# Altium schematic symbol library Schlib1.SchLib: 29 symbols
Pins are listed as number, name and electrical type; pins without a type are passive.

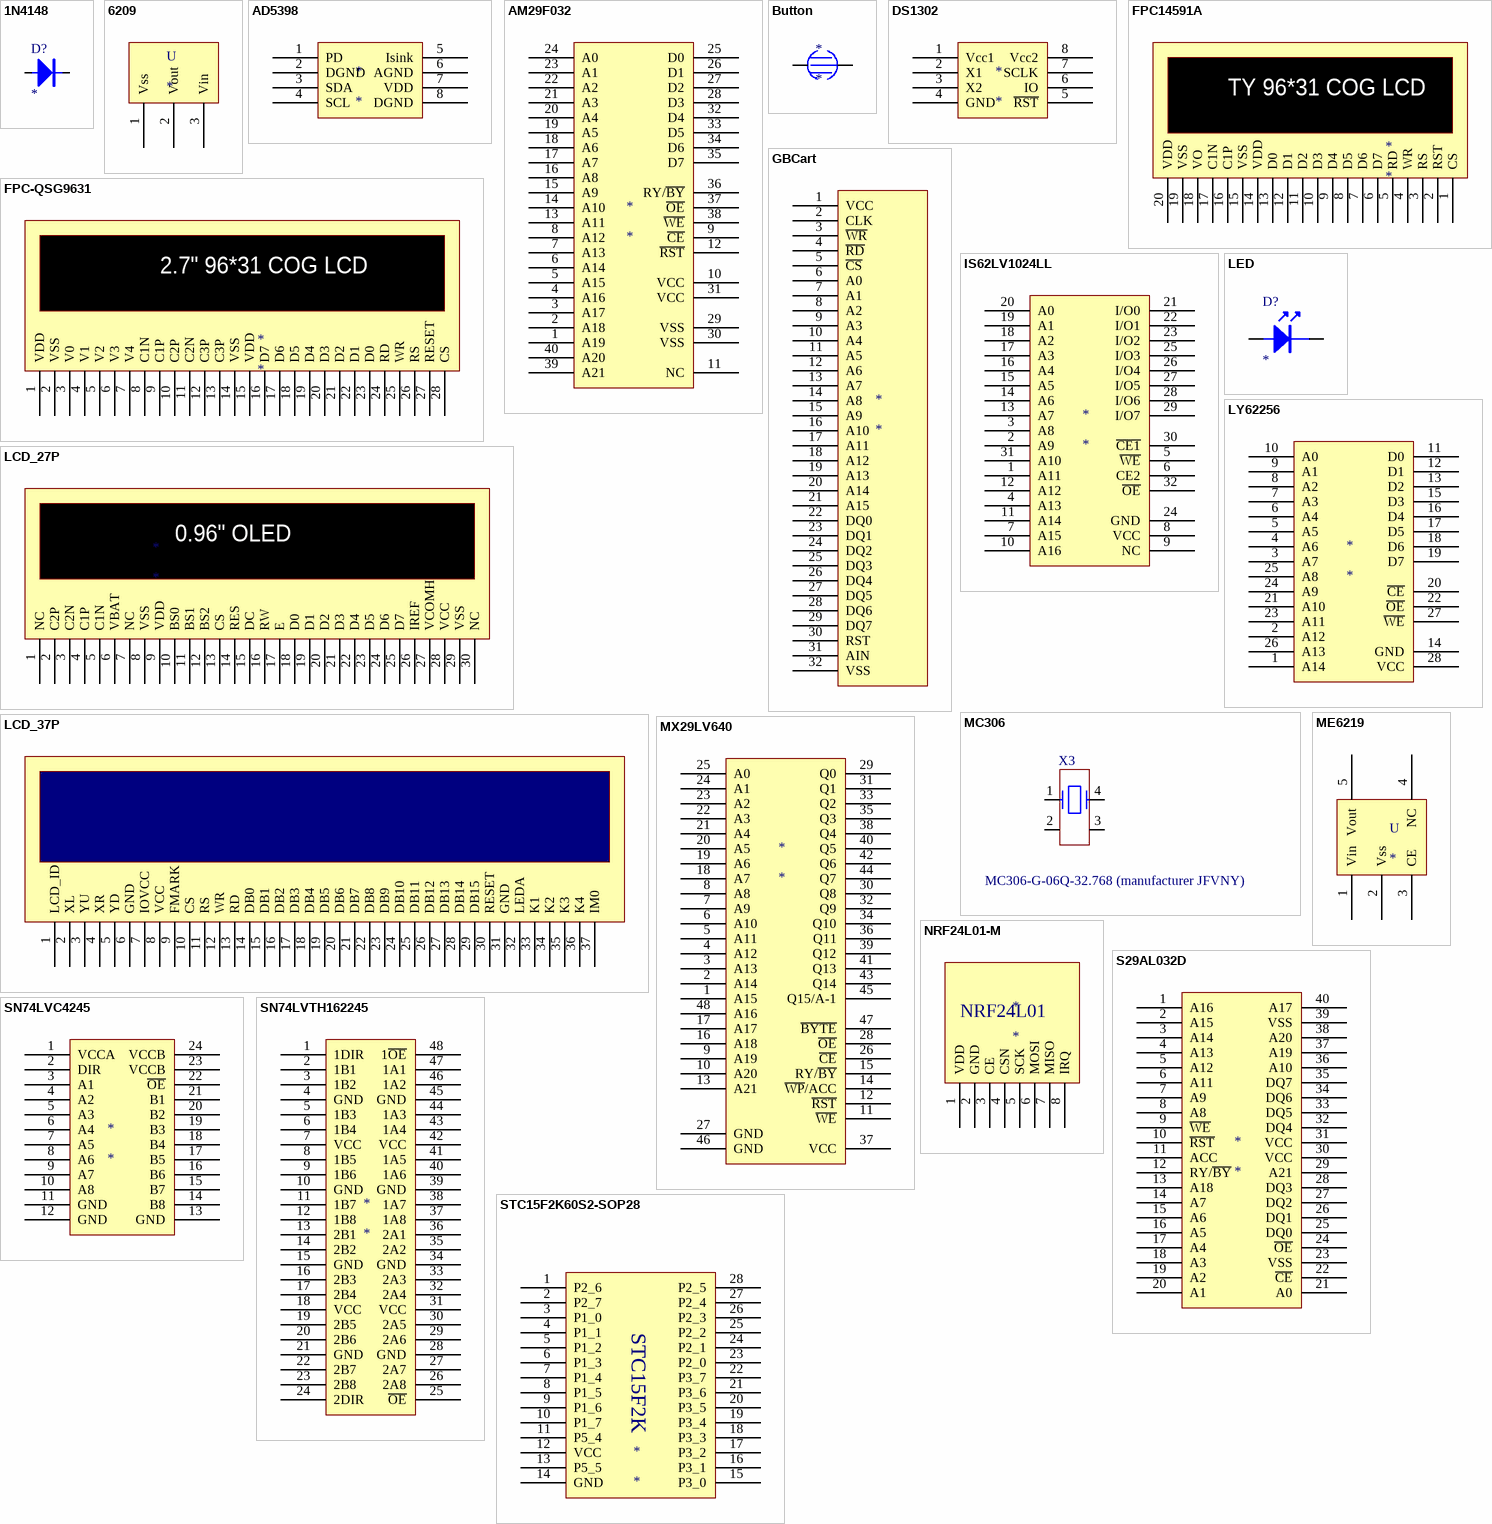
[diagram p0: symbols 1N4148 to STC15F2K60S2-SOP28]

## 1N4148
designator D?
footprint 0805D
pins: A 1, K 2

## 6209
designator U
footprint SOT-23
pins: 1 Vss, 2 Vout, 3 Vin

## AD5398
designator *
footprint SO-8
pins: 1 PD, 2 DGND, 3 SDA, 4 SCL, 5 Isink, 6 AGND, 7 VDD, 8 DGND

## AM29F032
designator *
footprint TSOP40
pins: 1 A19, 2 A18, 3 A17, 4 A16, 5 A15, 6 A14, 7 A13, 8 A12, 9 ~{CE}, 10 VCC, 11 NC, 12 ~{RST}, 13 A11, 14 A10, 15 A9, 16 A8, 17 A7, 18 A6, 19 A5, 20 A4, 21 A3, 22 A2, 23 A1, 24 A0, 25 D0, 26 D1, 27 D2, 28 D3, 29 VSS, 30 VSS, 31 VCC, 32 D4, 33 D5, 34 D6, 35 D7, 36 RY/~{BY}, 37 ~{OE}, 38 ~{WE}, 39 A21, 40 A20

## Button
designator *
footprint Button
pins: 1, 2

## DS1302
designator *
pins: 1 Vcc1, 2 X1, 3 X2, 4 GND, 5 ~{RST}, 6 IO, 7 SCLK, 8 Vcc2

## FPC14591A
designator *
pins: 1 CS, 2 RST, 3 RS, 4 WR, 5 RD, 6 D7, 7 D6, 8 D5, 9 D4, 10 D3, 11 D2, 12 D1, 13 D0, 14 VDD, 15 VSS, 16 C1P, 17 C1N, 18 VO, 19 VSS, 20 VDD
text: TY 96*31 COG LCD

## FPC-QSG9631
designator *
pins: 1 VDD, 2 VSS, 3 V0, 4 V1, 5 V2, 6 V3, 7 V4, 8 C1N, 9 C1P, 10 C2P, 11 C2N, 12 C3P, 13 C3P, 14 VSS, 15 VDD, 16 D7, 17 D6, 18 D5, 19 D4, 20 D3, 21 D2, 22 D1, 23 D0, 24 RD, 25 WR, 26 RS, 27 RESET, 28 CS
text: 2.7" 96*31 COG LCD

## GBCart
designator *
footprint GB_CART
pins: 1 VCC, 2 CLK, 3 ~{WR}, 4 ~{RD}, 5 ~{CS}, 6 A0, 7 A1, 8 A2, 9 A3, 10 A4, 11 A5, 12 A6, 13 A7, 14 A8, 15 A9, 16 A10, 17 A11, 18 A12, 19 A13, 20 A14, 21 A15, 22 DQ0, 23 DQ1, 24 DQ2, 25 DQ3, 26 DQ4, 27 DQ5, 28 DQ6, 29 DQ7, 30 RST, 31 AIN, 32 VSS

## IS62LV1024LL
designator *
footprint TSOP32
pins: 1 A11, 2 A9, 3 A8, 4 A13, 5 ~{WE}, 6 CE2, 7 A15, 8 VCC, 9 NC, 10 A16, 11 A14, 12 A12, 13 A7, 14 A6, 15 A5, 16 A4, 17 A3, 18 A2, 19 A1, 20 A0, 21 I/O0, 22 I/O1, 23 I/O2, 24 GND, 25 I/O3, 26 I/O4, 27 I/O5, 28 I/O6, 29 I/O7, 30 ~{CE1}, 31 A10, 32 ~{OE}

## LCD_27P
designator *
footprint OLED_30P
pins: 1 NC, 2 C2P, 3 C2N, 4 C1P, 5 C1N, 6 VBAT, 7 NC, 8 VSS, 9 VDD, 10 BS0, 11 BS1, 12 BS2, 13 CS, 14 RES, 15 DC, 16 RW, 17 E, 18 D0, 19 D1, 20 D2, 21 D3, 22 D4, 23 D5, 24 D6, 25 D7, 26 IREF, 27 VCOMH, 28 VCC, 29 VSS, 30 NC
text: 0.96" OLED

## LCD_37P
designator *
footprint LCD_37P
pins: 1 LCD_ID, 2 XL, 3 YU, 4 XR, 5 YD, 6 GND, 7 IOVCC, 8 VCC, 9 FMARK, 10 CS, 11 RS, 12 WR, 13 RD, 14 DB0, 15 DB1, 16 DB2, 17 DB3, 18 DB4, 19 DB5, 20 DB6, 21 DB7, 22 DB8, 23 DB9, 24 DB10, 25 DB11, 26 DB12, 27 DB13, 28 DB14, 29 DB15, 30 RESET, 31 GND, 32 LEDA, 33 K1, 34 K2, 35 K3, 36 K4, 37 IM0

## LED
designator D?
LED
footprint 0805D
pins: A 1, K 2

## LY62256
designator *
footprint SOP28
pins: 1 A14, 2 A12, 3 A7, 4 A6, 5 A5, 6 A4, 7 A3, 8 A2, 9 A1, 10 A0, 11 D0, 12 D1, 13 D2, 14 GND, 15 D3, 16 D4, 17 D5, 18 D6, 19 D7, 20 ~{CE}, 21 A10, 22 ~{OE}, 23 A11, 24 A9, 25 A8, 26 A13, 27 ~{WE}, 28 VCC

## MC306
designator X3, comment MC306-G-06Q-32.768 (manufacturer JFVNY)
footprint SM8 (Footprint not found)
pins: 1, 2, 3, 4

## ME6219
designator U
footprint SOT-23-5
pins: 1 Vin, 2 Vss, 3 CE, 4 NC, 5 Vout

## MX29LV640
designator *
footprint TSOP48L
pins: 1 A15, 2 A14, 3 A13, 4 A12, 5 A11, 6 A10, 7 A9, 8 A8, 9 A19, 10 A20, 11 ~{WE}, 12 ~{RST}, 13 A21, 14 ~{WP}/ACC, 15 RY/~{BY}, 16 A18, 17 A17, 18 A7, 19 A6, 20 A5, 21 A4, 22 A3, 23 A2, 24 A1, 25 A0, 26 ~{CE}, 27 GND, 28 ~{OE}, 29 Q0, 30 Q8, 31 Q1, 32 Q9, 33 Q2, 34 Q10, 35 Q3, 36 Q11, 37 VCC, 38 Q4, 39 Q12, 40 Q5, 41 Q13, 42 Q6, 43 Q14, 44 Q7, 45 Q15/A-1, 46 GND, 47 ~{BYTE}, 48 A16

## NRF24L01-M
designator *
footprint NRF24L01
pins: 1 VDD, 2 GND, 3 CE, 4 CSN, 5 SCK, 6 MOSI, 7 MISO, 8 IRQ
text: NRF24L01

## S29AL032D
designator *
footprint TSOP40
pins: 1 A16, 2 A15, 3 A14, 4 A13, 5 A12, 6 A11, 7 A9, 8 A8, 9 ~{WE}, 10 ~{RST}, 11 ACC, 12 RY/~{BY}, 13 A18, 14 A7, 15 A6, 16 A5, 17 A4, 18 A3, 19 A2, 20 A1, 21 A0, 22 ~{CE}, 23 VSS, 24 ~{OE}, 25 DQ0, 26 DQ1, 27 DQ2, 28 DQ3, 29 A21, 30 VCC, 31 VCC, 32 DQ4, 33 DQ5, 34 DQ6, 35 DQ7, 36 A10, 37 A19, 38 A20, 39 VSS, 40 A17

## SN74LVC4245
designator *
footprint TSSOP24
pins: 1 VCCA, 2 DIR, 3 A1, 4 A2, 5 A3, 6 A4, 7 A5, 8 A6, 9 A7, 10 A8, 11 GND, 12 GND, 13 GND, 14 B8, 15 B7, 16 B6, 17 B5, 18 B4, 19 B3, 20 B2, 21 B1, 22 ~{OE}, 23 VCCB, 24 VCCB

## SN74LVTH162245
designator *
footprint TSOP48
pins: 1 1DIR, 2 1B1, 3 1B2, 4 GND, 5 1B3, 6 1B4, 7 VCC, 8 1B5, 9 1B6, 10 GND, 11 1B7, 12 1B8, 13 2B1, 14 2B2, 15 GND, 16 2B3, 17 2B4, 18 VCC, 19 2B5, 20 2B6, 21 GND, 22 2B7, 23 2B8, 24 2DIR, 25 ~{OE}, 26 2A8, 27 2A7, 28 GND, 29 2A6, 30 2A5, 31 VCC, 32 2A4, 33 2A3, 34 GND, 35 2A2, 36 2A1, 37 1A8, 38 1A7, 39 GND, 40 1A6, 41 1A5, 42 VCC, 43 1A4, 44 1A3, 45 GND, 46 1A2, 47 1A1, 48 1~{OE}

## STC15F2K60S2-SOP28
designator *
pins: 1 P2_6, 2 P2_7, 3 P1_0, 4 P1_1, 5 P1_2, 6 P1_3, 7 P1_4, 8 P1_5, 9 P1_6, 10 P1_7, 11 P5_4, 12 VCC, 13 P5_5, 14 GND, 15 P3_0, 16 P3_1, 17 P3_2, 18 P3_3, 19 P3_4, 20 P3_5, 21 P3_6, 22 P3_7, 23 P2_0, 24 P2_1, 25 P2_2, 26 P2_3, 27 P2_4, 28 P2_5
text: STC15F2K

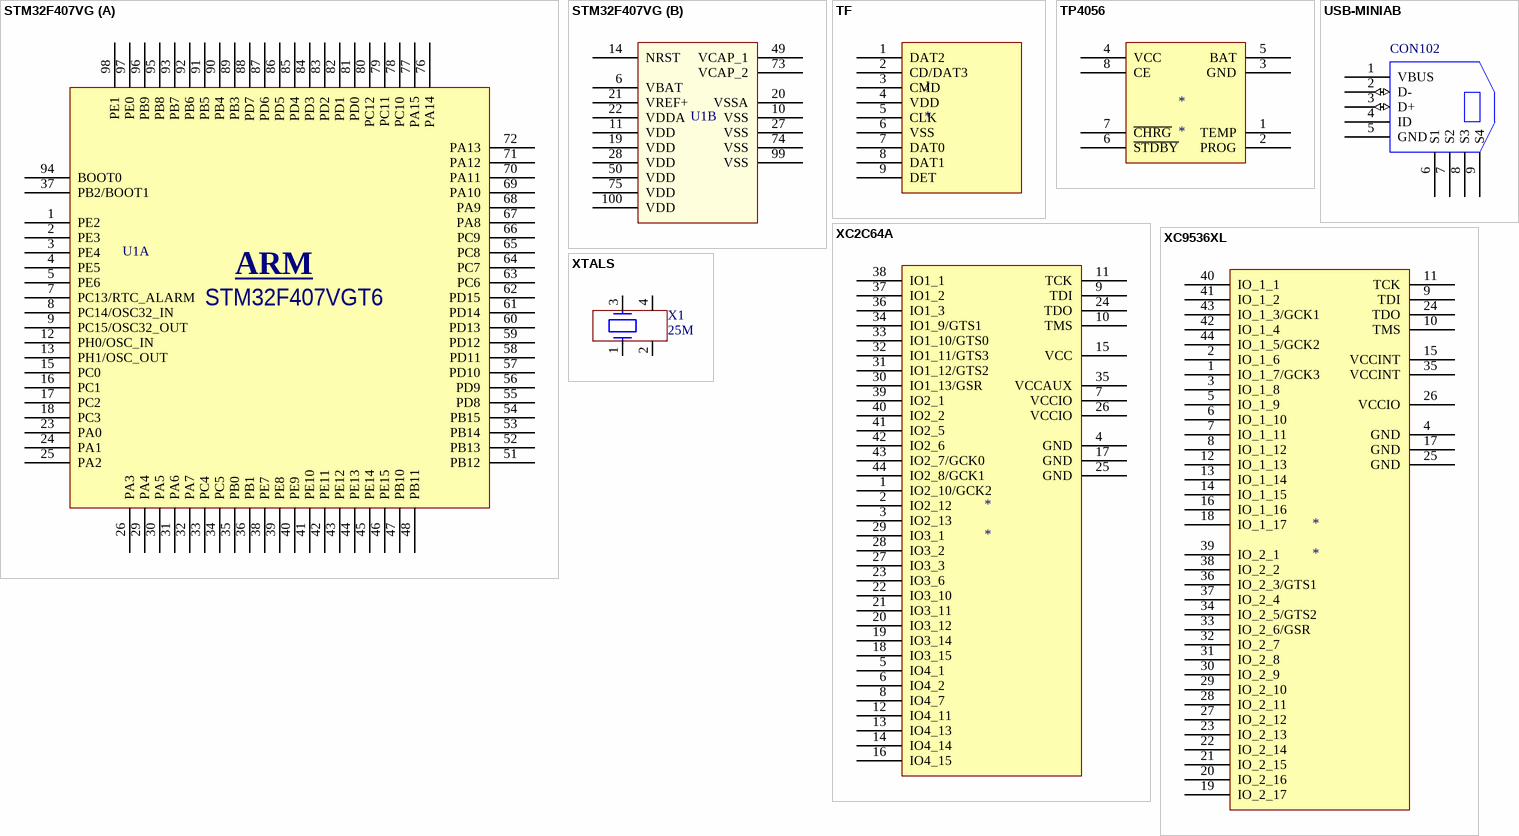
[diagram p1: symbols STM32F407VG to XTALS]

## STM32F407VG
designator U1  (value not drawn)
ARM Cortex-M3 Microcontroller
footprint 100T1_L (100-Pin Thin Quad Flat Pack 0.5 mm Pitch, IPC High Density)
part A pins: 1 PE2, 2 PE3, 3 PE4, 4 PE5, 5 PE6, 7 PC13/RTC_ALARM, 8 PC14/OSC32_IN, 9 PC15/OSC32_OUT, 12 PH0/OSC_IN, 13 PH1/OSC_OUT, 15 PC0, 16 PC1, 17 PC2, 18 PC3, 23 PA0, 24 PA1, 25 PA2, 26 PA3, 29 PA4, 30 PA5, 31 PA6, 32 PA7, 33 PC4, 34 PC5, 35 PB0, 36 PB1, 37 PB2/BOOT1, 38 PE7, 39 PE8, 40 PE9, 41 PE10, 42 PE11, 43 PE12, 44 PE13, 45 PE14, 46 PE15, 47 PB10, 48 PB11, 51 PB12, 52 PB13, 53 PB14, 54 PB15, 55 PD8, 56 PD9, 57 PD10, 58 PD11, 59 PD12, 60 PD13, 61 PD14, 62 PD15, 63 PC6, 64 PC7, 65 PC8, 66 PC9, 67 PA8, 68 PA9, 69 PA10, 70 PA11, 71 PA12, 72 PA13, 76 PA14, 77 PA15, 78 PC10, 79 PC11, 80 PC12, 81 PD0, 82 PD1, 83 PD2, 84 PD3, 85 PD4, 86 PD5, 87 PD6, 88 PD7, 89 PB3, 90 PB4, 91 PB5, 92 PB6, 93 PB7, 94 BOOT0, 95 PB8, 96 PB9, 97 PE0, 98 PE1
part B pins: 6 VBAT, 10 VSS, 11 VDD, 14 NRST, 19 VDD, 20 VSSA, 21 VREF+, 22 VDDA, 27 VSS, 28 VDD, 49 VCAP_1, 50 VDD, 73 VCAP_2, 74 VSS, 75 VDD, 99 VSS, 100 VDD
part A text: ARM; STM32F407VGT6

## TF
designator J
footprint TF-2
pins: 1 DAT2, 2 CD/DAT3, 3 CMD, 4 VDD, 5 CLK, 6 VSS, 7 DAT0, 8 DAT1, 9 DET

## TP4056
designator *
footprint SO-8
pins: 1 TEMP, 2 PROG, 3 GND, 4 VCC, 5 BAT, 6 ~{STDBY}, 7 ~{CHRG}, 8 CE

## USB-MINIAB
designator CON102  (value not drawn)
PCB DECAL: HIROSE-US60B-MB-5ST; Source_Path: Z:\ORCAD\CONNECTOR.OLB; Value: miniAB
footprint USB-MICRO
pins: 1 VBUS, 2 D- (io), 3 D+ (io), 4 ID, 5 GND (power), 6 S1, 7 S2, 8 S3, 9 S4

## XC2C64A
designator *
footprint 44A_L (44-Pin Thin Quad Flat Pack 0.8 mm Pitch, IPC High Density)
pins: 1 IO2_10/GCK2, 2 IO2_12, 3 IO2_13, 4 GND, 5 IO4_1, 6 IO4_2, 7 VCCIO, 8 IO4_7, 9 TDI, 10 TMS, 11 TCK, 12 IO4_11, 13 IO4_13, 14 IO4_14, 15 VCC, 16 IO4_15, 17 GND, 18 IO3_15, 19 IO3_14, 20 IO3_12, 21 IO3_11, 22 IO3_10, 23 IO3_6, 24 TDO, 25 GND, 26 VCCIO, 27 IO3_3, 28 IO3_2, 29 IO3_1, 30 IO1_13/GSR, 31 IO1_12/GTS2, 32 IO1_11/GTS3, 33 IO1_10/GTS0, 34 IO1_9/GTS1, 35 VCCAUX, 36 IO1_3, 37 IO1_2, 38 IO1_1, 39 IO2_1, 40 IO2_2, 41 IO2_5, 42 IO2_6, 43 IO2_7/GCK0, 44 IO2_8/GCK1

## XC9536XL
designator *
footprint 44A_L (44-Pin Thin Quad Flat Pack 0.8 mm Pitch, IPC High Density)
pins: 1 IO_1_7/GCK3, 2 IO_1_6, 3 IO_1_8, 4 GND, 5 IO_1_9, 6 IO_1_10, 7 IO_1_11, 8 IO_1_12, 9 TDI, 10 TMS, 11 TCK, 12 IO_1_13, 13 IO_1_14, 14 IO_1_15, 15 VCCINT, 16 IO_1_16, 17 GND, 18 IO_1_17, 19 IO_2_17, 20 IO_2_16, 21 IO_2_15, 22 IO_2_14, 23 IO_2_13, 24 TDO, 25 GND, 26 VCCIO, 27 IO_2_12, 28 IO_2_11, 29 IO_2_10, 30 IO_2_9, 31 IO_2_8, 32 IO_2_7, 33 IO_2_6/GSR, 34 IO_2_5/GTS2, 35 VCCINT, 36 IO_2_3/GTS1, 37 IO_2_4, 38 IO_2_2, 39 IO_2_1, 40 IO_1_1, 41 IO_1_2, 42 IO_1_4, 43 IO_1_3/GCK1, 44 IO_1_5/GCK2

## XTALS
designator X1, comment 25M
footprint XS-3225
pins: 1, 2, 3, 4